# Altium schematic symbol library SRP6060FA-5R6M.SchLib: 1 symbol
Pins are listed as number, name and electrical type; pins without a type are passive.

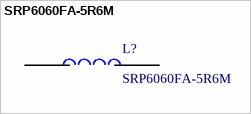
[diagram p0: symbol SRP6060FA-5R6M]

## SRP6060FA-5R6M
designator L?
footprint test alus
pins: 1, 2